# Altium schematic symbol library LT3470.SchLib: 1 symbol
Pins are listed as number, name and electrical type; pins without a type are passive.

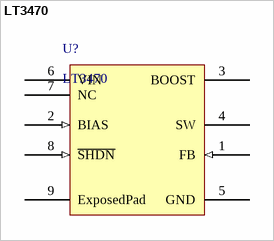
[diagram p0: symbol LT3470]

## LT3470
designator U?
Micropower Buck Regulator with Integrated Boost and Catch Diodes
footprint DFN-8
pins: 1 FB (in), 2 BIAS (in), 3 BOOST, 4 SW, 5 GND (power), 6 VIN (power), 7 NC, 8 ~{SHDN} (in), 9 ExposedPad (power)